# EAGLE library part SCHA(PUSH-PUSH) (library custom1)
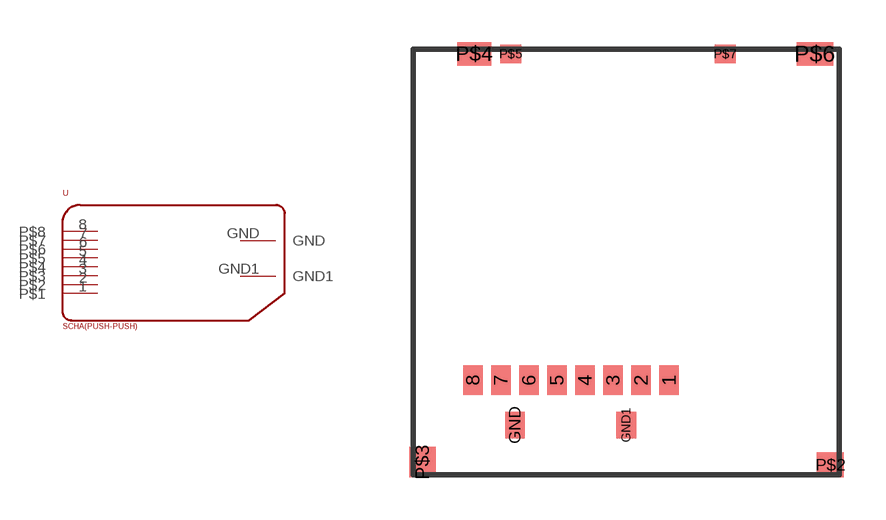
[diagram p0: symbol with the pads of SCHA(PUCH-PUCH_TYPE); footprint SCHA(PUCH-PUCH_TYPE)]

Designator prefix -

## SCHA(PUSH-PUSH)  [SCHA(PUCH-PUCH_TYPE)]
1  P$1
2  P$2
3  P$3
4  P$4
5  P$5
6  P$6
7  P$7
8  P$8
GND  GND
GND1  GND1

## Footprint SCHA(PUCH-PUCH_TYPE) (pad centres in mm)
smd 0.7 x 1.05: 1 9.125,3.375; 2 8.125,3.375; 3 7.125,3.375; 4 6.125,3.375; 5 5.125,3.375; 6 4.125,3.375; 7 3.125,3.375; 8 2.125,3.375
smd 0.7 x 0.95: GND 3.625,1.775; GND1 7.6,1.775
smd 0.95 x 0.9: P$2 14.875,0.35
smd 0.95 x 1.1: P$3 0.325,0.45
smd 1.2 x 0.85: P$4 2.175,15.025
smd 0.75 x 0.65: P$5 3.475,15.025; P$7 11.125,15.025
smd 1.3 x 0.85: P$6 14.325,15.025